# EAGLE library part MAX4081 (library Maxim-Current_Sense)
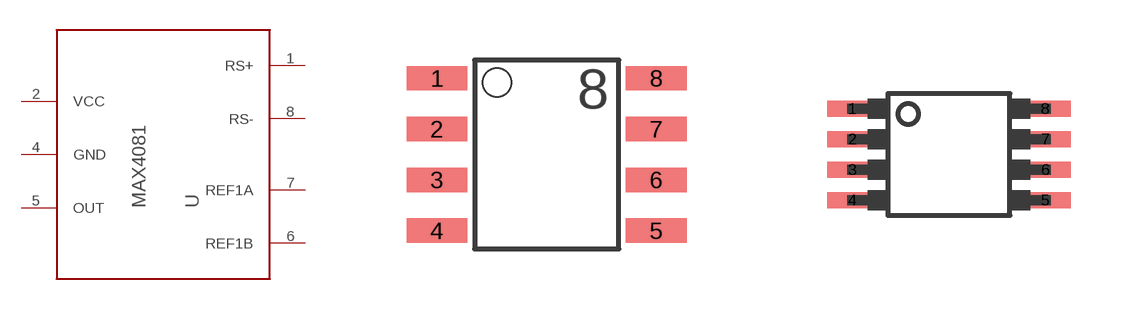
[diagram p0: symbol with the pads of SOIC-8; footprints SOIC-8, µMAX-8]

Designator prefix -

## MAX4081FASA  [SOIC-8]
1  RS+
2  VCC  pwr
4  GND  pwr
5  OUT
6  REF1B
7  REF1A
8  RS-

## MAX4081TASA  [SOIC-8]
Pads as for SOIC-8

## MAX4081SASA  [SOIC-8]
Pads as for SOIC-8

## MAX4081FAUA  [µMAX-8]
Pads as for SOIC-8

## MAX4081TAUA  [µMAX-8]
Pads as for SOIC-8

## MAX4081SAUA  [µMAX-8]
Pads as for SOIC-8

## Footprint SOIC-8 (pad centres in mm)
F-Variante: Av=5V/V; T-Variante: Av=20V/V; S-Variante: Av=60V/V ;
smd 1.524 x 0.61: 1 -2.743,1.905; 2 -2.743,0.635; 3 -2.743,-0.635; 4 -2.743,-1.905; 5 2.743,-1.905; 6 2.743,-0.635; 7 2.743,0.635; 8 2.743,1.905

## Footprint µMAX-8 (pad centres in mm)
smd 1.27 x 0.406: 1 -2.413,1.143; 2 -2.413,0.381; 3 -2.413,-0.381; 4 -2.413,-1.143; 5 2.413,-1.143; 6 2.413,-0.381; 7 2.413,0.381; 8 2.413,1.143